# EAGLE library part AT328P-DIP-SOCKET (library AT328p-dip-socket)
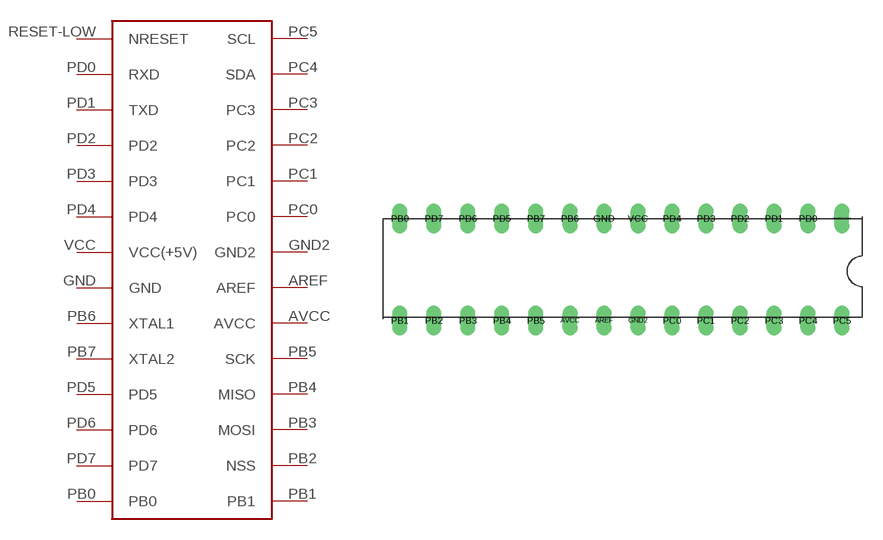
[diagram p0: symbol with the pads of AT328P-BASIC-BOARD1; footprint AT328P-BASIC-BOARD1]

Designator prefix -

## AT328P-DIP-SOCKET  [AT328P-BASIC-BOARD1]
AREF  AREF
AVCC  AVCC
GND  GND
GND2  GND2
PB0  PB0
PB1  PB1
PB2  NSS
PB3  MOSI
PB4  MISO
PB5  SCK
PB6  XTAL1
PB7  XTAL2
PC0  PC0
PC1  PC1
PC2  PC2
PC3  PC3
PC4  SDA
PC5  SCL
PD0  RXD
PD1  TXD
PD2  PD2
PD3  PD3
PD4  PD4
PD5  PD5
PD6  PD6
PD7  PD7
RESET-LOW  NRESET
VCC  VCC(+5V)

## Footprint AT328P-BASIC-BOARD1 (pad centres in mm)
drill 0.6 long: AREF 15.24,0; AVCC 12.7,0; GND 15.24,7.62; GND2 17.78,0; PB0 0,7.62; PB1 0,0; PB2 2.54,0; PB3 5.08,0; PB4 7.62,0; PB5 10.16,0; PB6 12.7,7.62; PB7 10.16,7.62; PC0 20.32,0; PC1 22.86,0; PC2 25.4,0; PC3 27.94,0; PC4 30.48,0; PC5 33.02,0; PD0 30.48,7.62; PD1 27.94,7.62; PD2 25.4,7.62; PD3 22.86,7.62; PD4 20.32,7.62; PD5 7.62,7.62; PD6 5.08,7.62; PD7 2.54,7.62; RESET-LOW 33.02,7.62; VCC 17.78,7.62